# EAGLE library part SMF05C (library Deegou_IC)
TVS Diode Array For ESD and Latch-Up Protection http://www.semtech.com/images/datasheet/smf05c.pdf
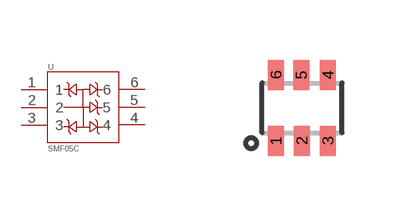
[diagram p112: symbol with the pads of SC70-6L; footprint SC70-6L]

Designator prefix U

## SMF05C'-SC70'  [SC70-6L]
1  1
2  2
3  3
4  4
5  5
6  6

## Footprint SC70-6L (pad centres in mm)
smd 0.4 x 0.75: 1 -0.65,-0.825; 2 0,-0.825; 3 0.65,-0.825; 4 0.65,0.825; 5 -0.015,0.825; 6 -0.65,0.825